# Altium schematic symbol library Conn_1pin.SchLib: 1 symbol
Pins are listed as number, name and electrical type; pins without a type are passive.

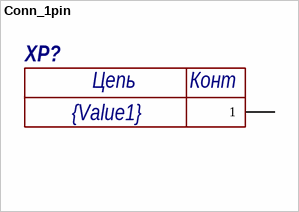
[diagram p0: symbol Conn_1pin]

## Conn_1pin
designator XP?  Value1: {Value1}
pins: 1
text: Цепь; Конт